# Altium schematic symbol library Microcontroller.SchLib: 13 symbols
Pins are listed as number, name and electrical type; pins without a type are passive.

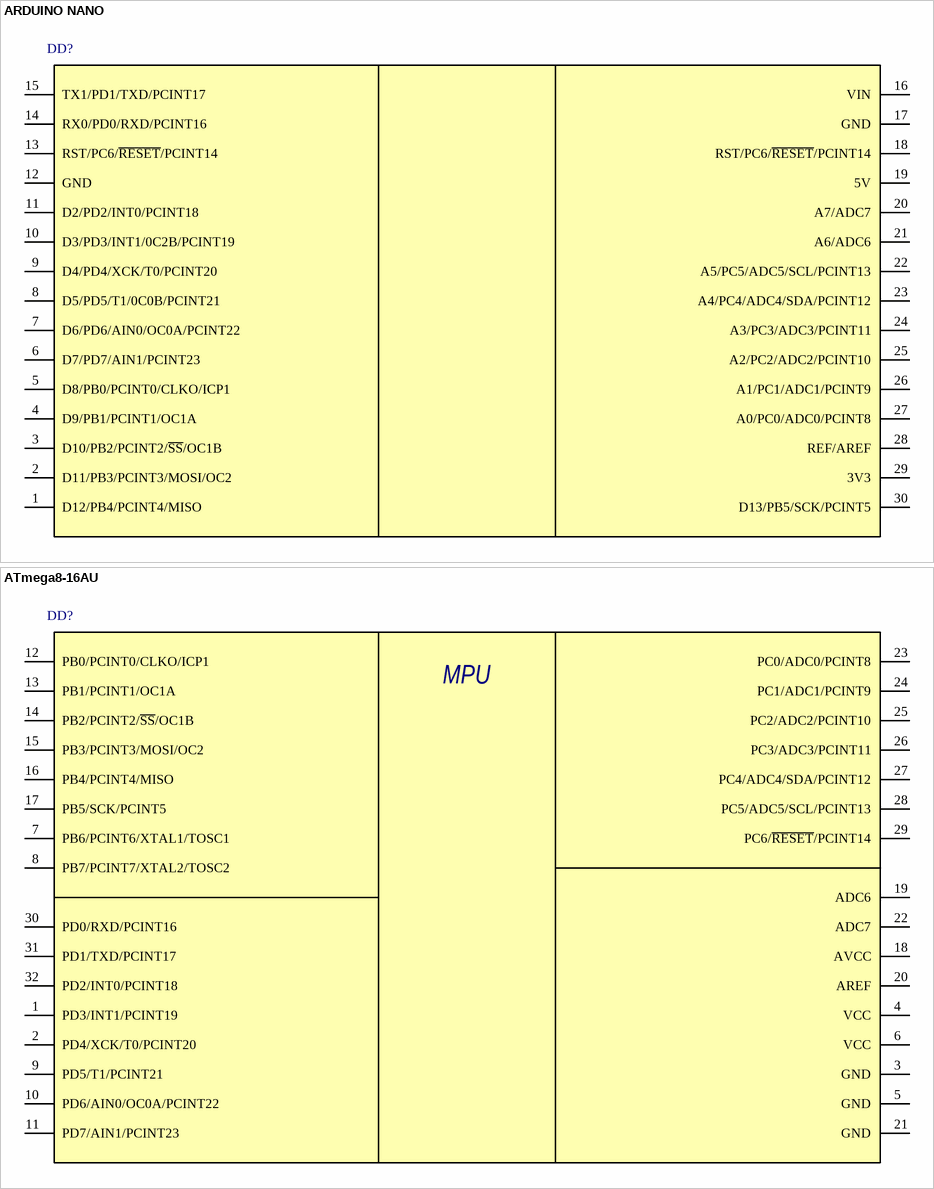
[diagram p0: symbols ARDUINO NANO to ATmega8-16AU]

## ARDUINO NANO
designator DD?
Отладочная плата ATmega328
pins: 1 D12/PB4/PCINT4/MISO, 2 D11/PB3/PCINT3/MOSI/OC2, 3 D10/PB2/PCINT2/~{SS}/OC1B, 4 D9/PB1/PCINT1/OC1A, 5 D8/PB0/PCINT0/CLKO/ICP1, 6 D7/PD7/AIN1/PCINT23, 7 D6/PD6/AIN0/OC0A/PCINT22, 8 D5/PD5/T1/0C0B/PCINT21, 9 D4/PD4/XCK/T0/PCINT20, 10 D3/PD3/INT1/0C2B/PCINT19, 11 D2/PD2/INT0/PCINT18, 12 GND, 13 RST/PC6/~{RESET}/PCINT14, 14 RX0/PD0/RXD/PCINT16, 15 TX1/PD1/TXD/PCINT17, 16 VIN, 17 GND, 18 RST/PC6/~{RESET}/PCINT14, 19 5V, 20 A7/ADC7, 21 A6/ADC6, 22 A5/PC5/ADC5/SCL/PCINT13, 23 A4/PC4/ADC4/SDA/PCINT12, 24 A3/PC3/ADC3/PCINT11, 25 A2/PC2/ADC2/PCINT10, 26 A1/PC1/ADC1/PCINT9, 27 A0/PC0/ADC0/PCINT8, 28 REF/AREF, 29 3V3, 30 D13/PB5/SCK/PCINT5

## ATmega8-16AU
designator DD?
Микроконтроллер 32-pin
pins: 1 PD3/INT1/PCINT19, 2 PD4/XCK/T0/PCINT20, 3 GND, 4 VCC, 5 GND, 6 VCC, 7 PB6/PCINT6/XTAL1/TOSC1, 8 PB7/PCINT7/XTAL2/TOSC2, 9 PD5/T1/PCINT21, 10 PD6/AIN0/OC0A/PCINT22, 11 PD7/AIN1/PCINT23, 12 PB0/PCINT0/CLKO/ICP1, 13 PB1/PCINT1/OC1A, 14 PB2/PCINT2/~{SS}/OC1B, 15 PB3/PCINT3/MOSI/OC2, 16 PB4/PCINT4/MISO, 17 PB5/SCK/PCINT5, 18 AVCC, 19 ADC6, 20 AREF, 21 GND, 22 ADC7, 23 PC0/ADC0/PCINT8, 24 PC1/ADC1/PCINT9, 25 PC2/ADC2/PCINT10, 26 PC3/ADC3/PCINT11, 27 PC4/ADC4/SDA/PCINT12, 28 PC5/ADC5/SCL/PCINT13, 29 PC6/~{RESET}/PCINT14, 30 PD0/RXD/PCINT16, 31 PD1/TXD/PCINT17, 32 PD2/INT0/PCINT18
text: MPU

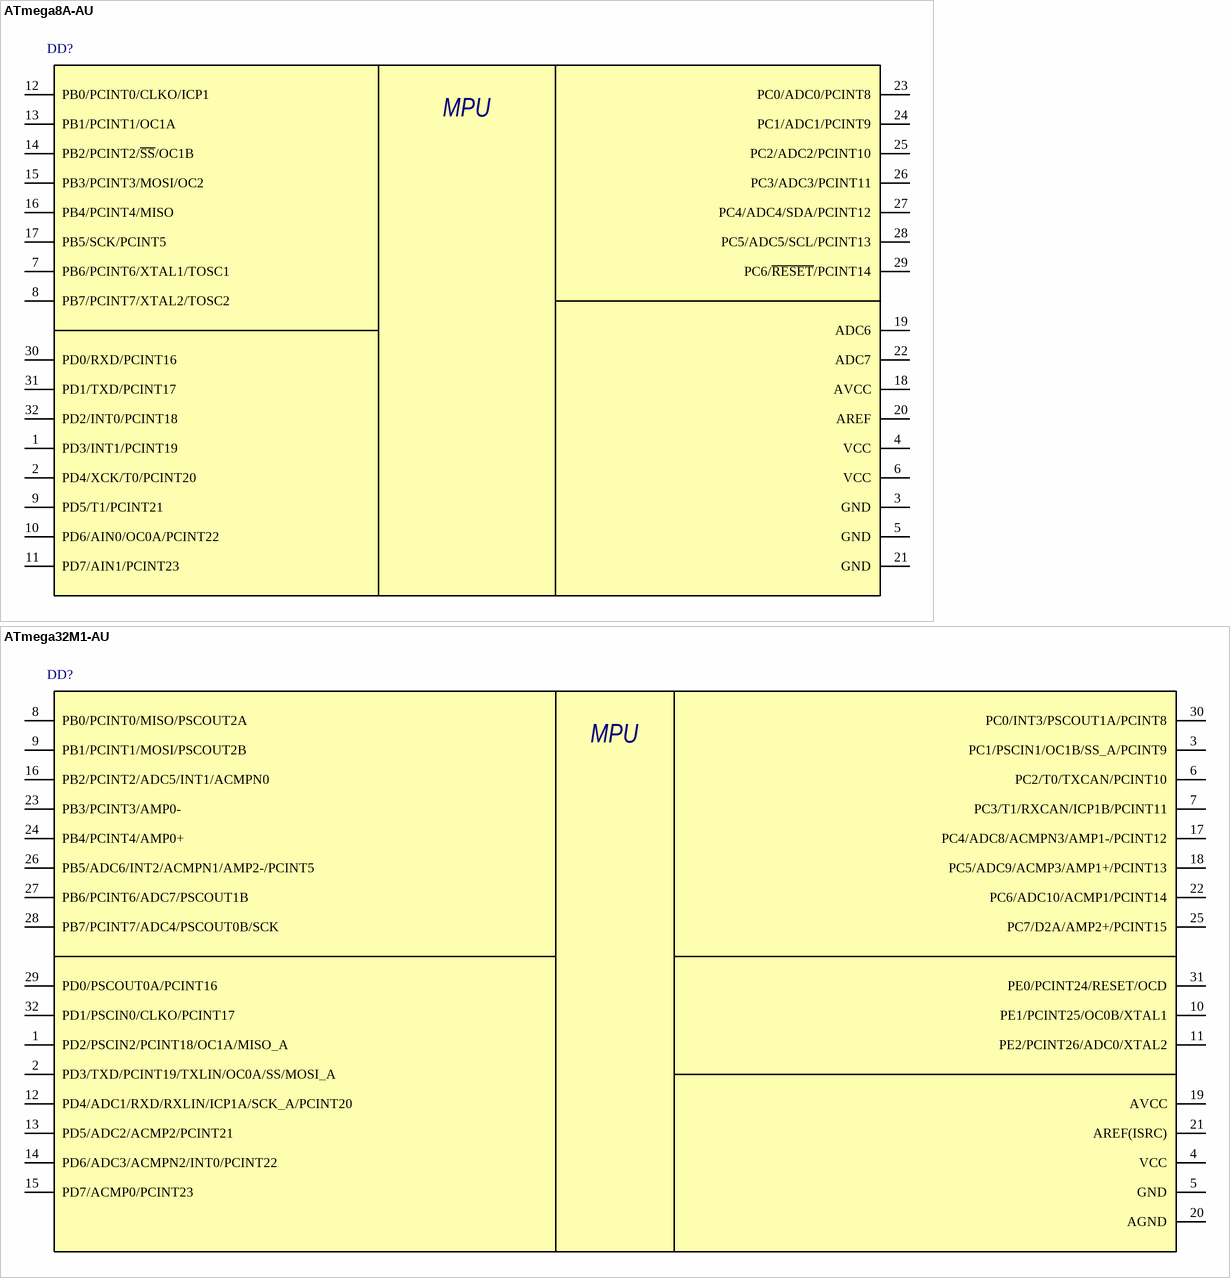
[diagram p1: symbols ATmega8A-AU to ATmega32M1-AU]

## ATmega8A-AU
designator DD?
Микроконтроллер 8-Бит, AVR, 16МГц, 8КБ Flash
pins: 1 PD3/INT1/PCINT19, 2 PD4/XCK/T0/PCINT20, 3 GND, 4 VCC, 5 GND, 6 VCC, 7 PB6/PCINT6/XTAL1/TOSC1, 8 PB7/PCINT7/XTAL2/TOSC2, 9 PD5/T1/PCINT21, 10 PD6/AIN0/OC0A/PCINT22, 11 PD7/AIN1/PCINT23, 12 PB0/PCINT0/CLKO/ICP1, 13 PB1/PCINT1/OC1A, 14 PB2/PCINT2/~{SS}/OC1B, 15 PB3/PCINT3/MOSI/OC2, 16 PB4/PCINT4/MISO, 17 PB5/SCK/PCINT5, 18 AVCC, 19 ADC6, 20 AREF, 21 GND, 22 ADC7, 23 PC0/ADC0/PCINT8, 24 PC1/ADC1/PCINT9, 25 PC2/ADC2/PCINT10, 26 PC3/ADC3/PCINT11, 27 PC4/ADC4/SDA/PCINT12, 28 PC5/ADC5/SCL/PCINT13, 29 PC6/~{RESET}/PCINT14, 30 PD0/RXD/PCINT16, 31 PD1/TXD/PCINT17, 32 PD2/INT0/PCINT18
text: MPU

## ATmega32M1-AU
designator DD?
Микроконтроллер 8-Бит, AVR, 16МГц, 32КБ Flash
pins: 1 PD2/PSCIN2/PCINT18/OC1A/MISO_A, 2 PD3/TXD/PCINT19/TXLIN/OC0A/SS/MOSI_A, 3 PC1/PSCIN1/OC1B/SS_A/PCINT9, 4 VCC, 5 GND, 6 PC2/T0/TXCAN/PCINT10, 7 PC3/T1/RXCAN/ICP1B/PCINT11, 8 PB0/PCINT0/MISO/PSCOUT2A, 9 PB1/PCINT1/MOSI/PSCOUT2B, 10 PE1/PCINT25/OC0B/XTAL1, 11 PE2/PCINT26/ADC0/XTAL2, 12 PD4/ADC1/RXD/RXLIN/ICP1A/SCK_A/PCINT20, 13 PD5/ADC2/ACMP2/PCINT21, 14 PD6/ADC3/ACMPN2/INT0/PCINT22, 15 PD7/ACMP0/PCINT23, 16 PB2/PCINT2/ADC5/INT1/ACMPN0, 17 PC4/ADC8/ACMPN3/AMP1-/PCINT12, 18 PC5/ADC9/ACMP3/AMP1+/PCINT13, 19 AVCC, 20 AGND, 21 AREF(ISRC), 22 PC6/ADC10/ACMP1/PCINT14, 23 PB3/PCINT3/AMP0-, 24 PB4/PCINT4/AMP0+, 25 PC7/D2A/AMP2+/PCINT15, 26 PB5/ADC6/INT2/ACMPN1/AMP2-/PCINT5, 27 PB6/PCINT6/ADC7/PSCOUT1B, 28 PB7/PCINT7/ADC4/PSCOUT0B/SCK, 29 PD0/PSCOUT0A/PCINT16, 30 PC0/INT3/PSCOUT1A/PCINT8, 31 PE0/PCINT24/RESET/OCD, 32 PD1/PSCIN0/CLKO/PCINT17
text: MPU

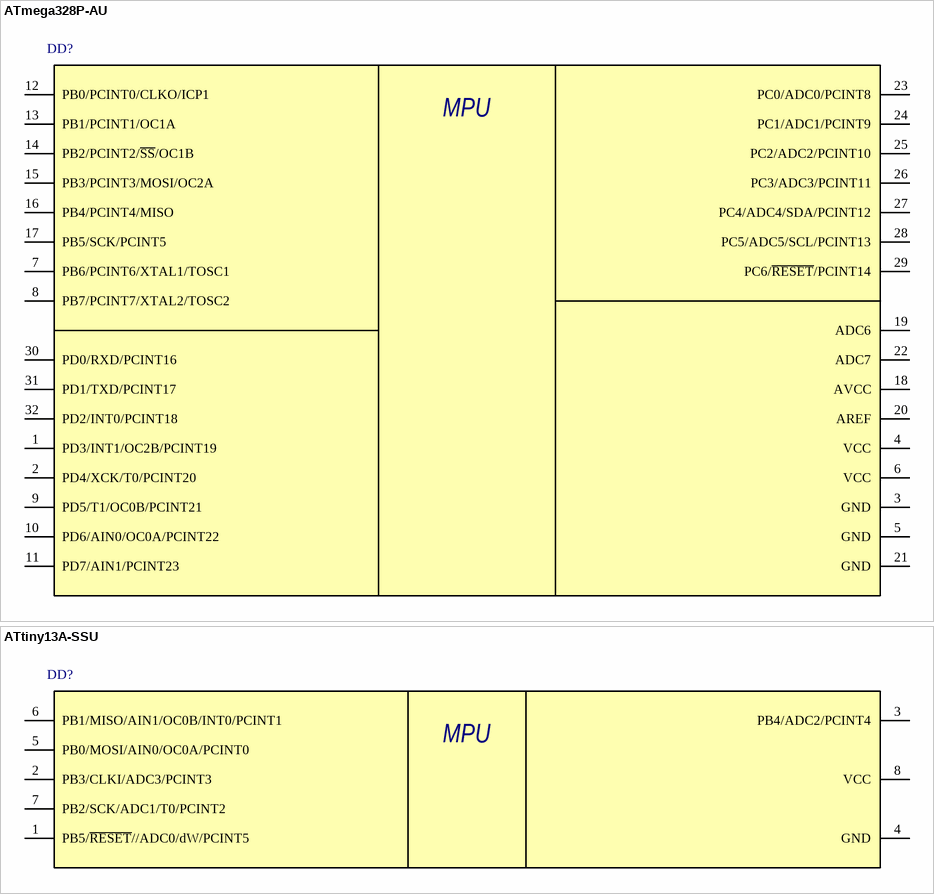
[diagram p2: symbols ATmega328P-AU to ATtiny13A-SSU]

## ATmega328P-AU
designator DD?
Микроконтроллер 8-Бит, picoPower, AVR, 20МГц, 32КБ Flash
pins: 1 PD3/INT1/OC2B/PCINT19, 2 PD4/XCK/T0/PCINT20, 3 GND, 4 VCC, 5 GND, 6 VCC, 7 PB6/PCINT6/XTAL1/TOSC1, 8 PB7/PCINT7/XTAL2/TOSC2, 9 PD5/T1/OC0B/PCINT21, 10 PD6/AIN0/OC0A/PCINT22, 11 PD7/AIN1/PCINT23, 12 PB0/PCINT0/CLKO/ICP1, 13 PB1/PCINT1/OC1A, 14 PB2/PCINT2/~{SS}/OC1B, 15 PB3/PCINT3/MOSI/OC2A, 16 PB4/PCINT4/MISO, 17 PB5/SCK/PCINT5, 18 AVCC, 19 ADC6, 20 AREF, 21 GND, 22 ADC7, 23 PC0/ADC0/PCINT8, 24 PC1/ADC1/PCINT9, 25 PC2/ADC2/PCINT10, 26 PC3/ADC3/PCINT11, 27 PC4/ADC4/SDA/PCINT12, 28 PC5/ADC5/SCL/PCINT13, 29 PC6/~{RESET}/PCINT14, 30 PD0/RXD/PCINT16, 31 PD1/TXD/PCINT17, 32 PD2/INT0/PCINT18
text: MPU

## ATtiny13A-SSU
designator DD?
Микроконтроллер 8-Бит, picoPower, AVR, 20МГц, 1КБ Flash
pins: 1 PB5/~{RESET}//ADC0/dW/PCINT5, 2 PB3/CLKI/ADC3/PCINT3, 3 PB4/ADC2/PCINT4, 4 GND, 5 PB0/MOSI/AIN0/OC0A/PCINT0, 6 PB1/MISO/AIN1/OC0B/INT0/PCINT1, 7 PB2/SCK/ADC1/T0/PCINT2, 8 VCC
text: MPU

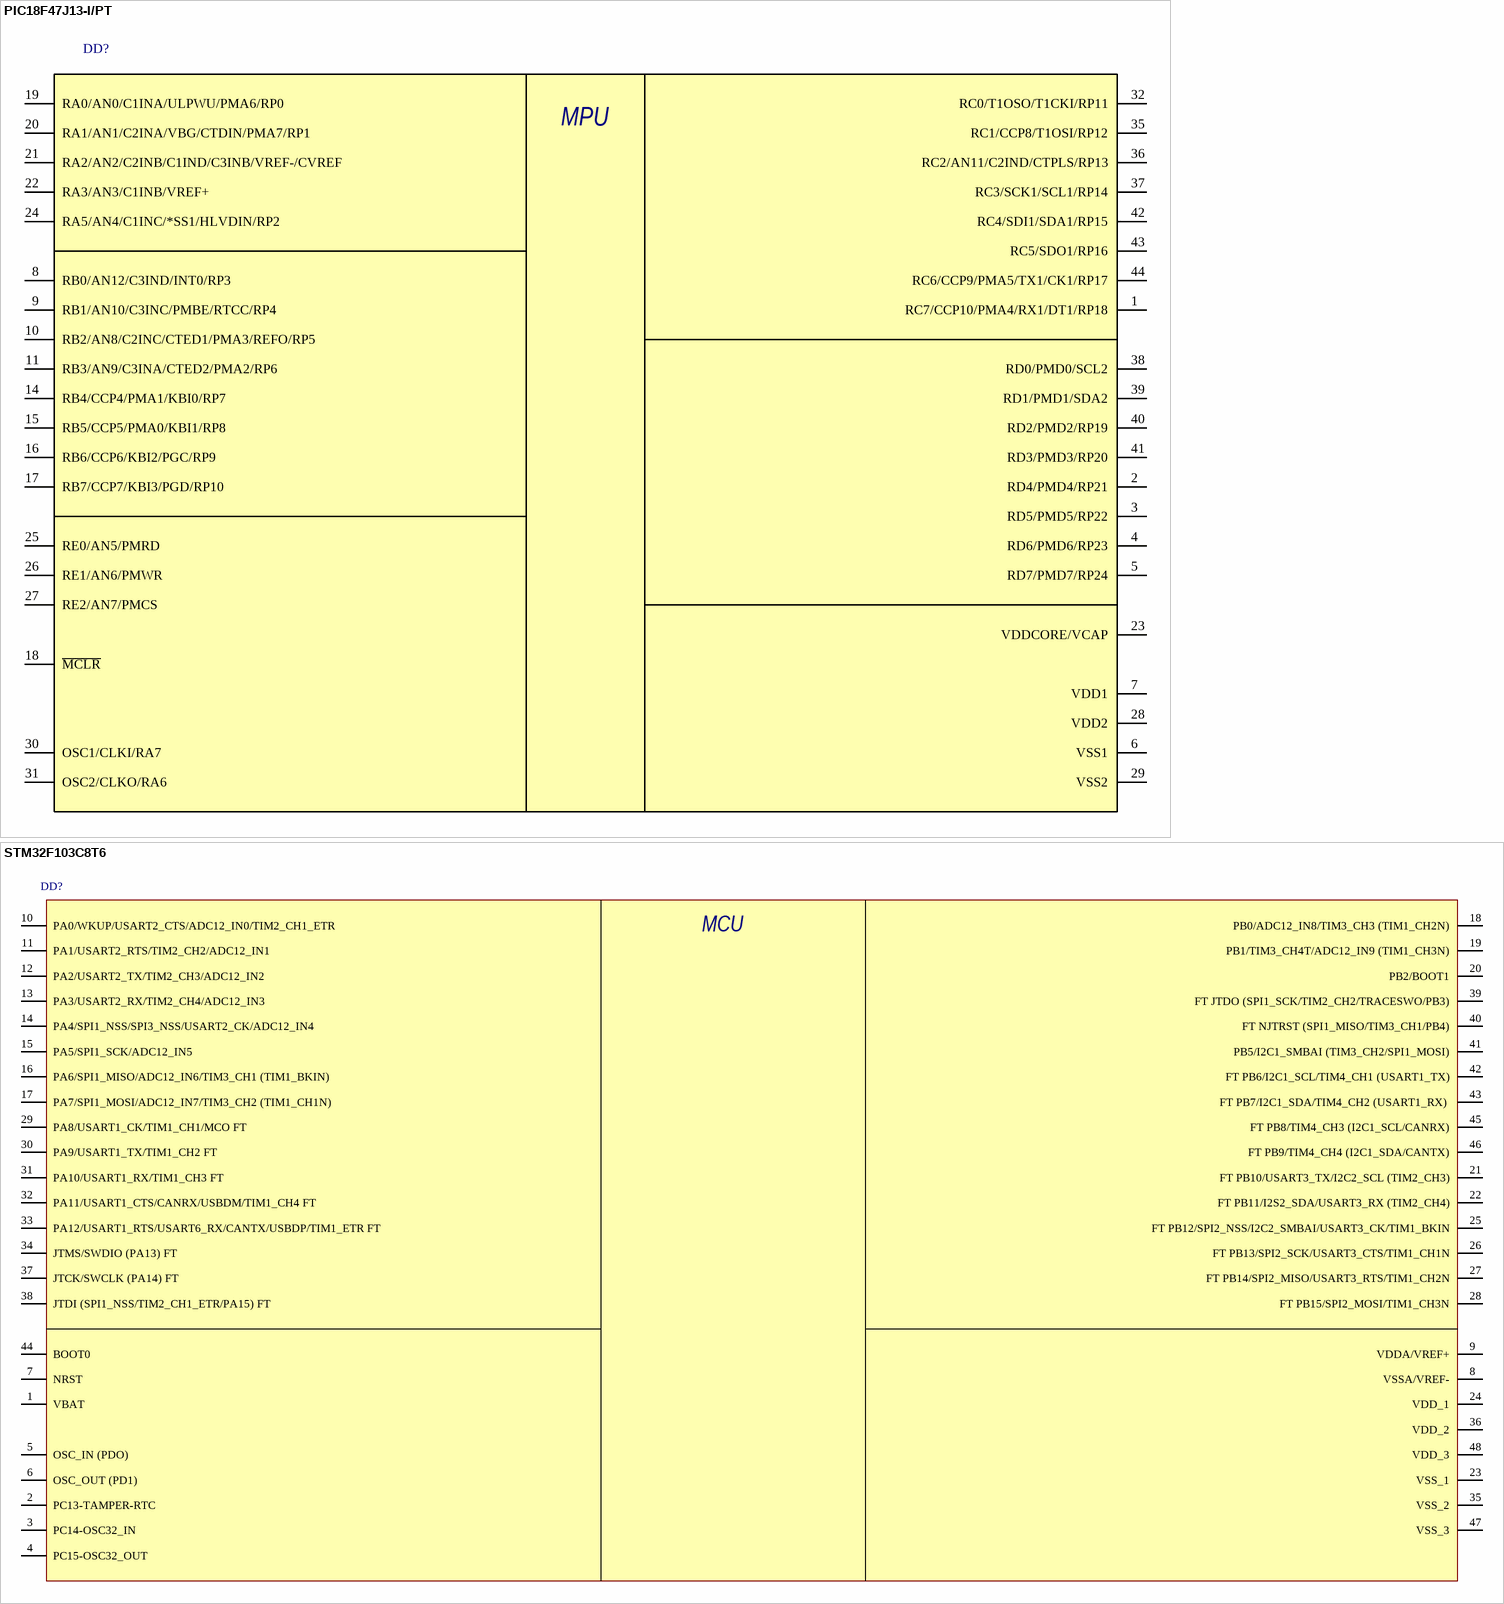
[diagram p3: symbols PIC18F47J13-I/PT to STM32F103C8T6]

## PIC18F47J13-I/PT
designator DD?
Микроконтроллер 8-Бит, 44-pin
pins: 1 RC7/CCP10/PMA4/RX1/DT1/RP18, 2 RD4/PMD4/RP21, 3 RD5/PMD5/RP22, 4 RD6/PMD6/RP23, 5 RD7/PMD7/RP24, 6 VSS1, 7 VDD1, 8 RB0/AN12/C3IND/INT0/RP3, 9 RB1/AN10/C3INC/PMBE/RTCC/RP4, 10 RB2/AN8/C2INC/CTED1/PMA3/REFO/RP5, 11 RB3/AN9/C3INA/CTED2/PMA2/RP6, 14 RB4/CCP4/PMA1/KBI0/RP7, 15 RB5/CCP5/PMA0/KBI1/RP8, 16 RB6/CCP6/KBI2/PGC/RP9, 17 RB7/CCP7/KBI3/PGD/RP10, 18 ~{MCLR}, 19 RA0/AN0/C1INA/ULPWU/PMA6/RP0, 20 RA1/AN1/C2INA/VBG/CTDIN/PMA7/RP1, 21 RA2/AN2/C2INB/C1IND/C3INB/VREF-/CVREF, 22 RA3/AN3/C1INB/VREF+, 23 VDDCORE/VCAP, 24 RA5/AN4/C1INC/*SS1/HLVDIN/RP2, 25 RE0/AN5/PMRD, 26 RE1/AN6/PMWR, 27 RE2/AN7/PMCS, 28 VDD2, 29 VSS2, 30 OSC1/CLKI/RA7, 31 OSC2/CLKO/RA6, 32 RC0/T1OSO/T1CKI/RP11, 35 RC1/CCP8/T1OSI/RP12, 36 RC2/AN11/C2IND/CTPLS/RP13, 37 RC3/SCK1/SCL1/RP14, 38 RD0/PMD0/SCL2, 39 RD1/PMD1/SDA2, 40 RD2/PMD2/RP19, 41 RD3/PMD3/RP20, 42 RC4/SDI1/SDA1/RP15, 43 RC5/SDO1/RP16, 44 RC6/CCP9/PMA5/TX1/CK1/RP17
text: MPU

## STM32F103C8T6
designator DD?
Medium-density performance line ARM®-based 32-bit MCU with 64  or 128 KB Flash, USB, CAN, 7 timers, 2 ADCs, 9 com. interfaces
pins: 1 VBAT, 2 PC13-TAMPER-RTC, 3 PC14-OSC32_IN, 4 PC15-OSC32_OUT, 5 OSC_IN (PDO), 6 OSC_OUT (PD1), 7 NRST, 8 VSSA/VREF-, 9 VDDA/VREF+, 10 PA0/WKUP/USART2_CTS/ADC12_IN0/TIM2_CH1_ETR, 11 PA1/USART2_RTS/TIM2_CH2/ADC12_IN1, 12 PA2/USART2_TX/TIM2_CH3/ADC12_IN2, 13 PA3/USART2_RX/TIM2_CH4/ADC12_IN3, 14 PA4/SPI1_NSS/SPI3_NSS/USART2_CK/ADC12_IN4, 15 PA5/SPI1_SCK/ADC12_IN5, 16 PA6/SPI1_MISO/ADC12_IN6/TIM3_CH1 (TIM1_BKIN), 17 PA7/SPI1_MOSI/ADC12_IN7/TIM3_CH2 (TIM1_CH1N), 18 PB0/ADC12_IN8/TIM3_CH3 (TIM1_CH2N), 19 PB1/TIM3_CH4T/ADC12_IN9 (TIM1_CH3N), 20 PB2/BOOT1, 21 FT PB10/USART3_TX/I2C2_SCL (TIM2_CH3), 22 FT PB11/I2S2_SDA/USART3_RX (TIM2_CH4), 23 VSS_1, 24 VDD_1, 25 FT PB12/SPI2_NSS/I2C2_SMBAI/USART3_CK/TIM1_BKIN, 26 FT PB13/SPI2_SCK/USART3_CTS/TIM1_CH1N, 27 FT PB14/SPI2_MISO/USART3_RTS/TIM1_CH2N, 28 FT PB15/SPI2_MOSI/TIM1_CH3N, 29 PA8/USART1_CK/TIM1_CH1/MCO FT, 30 PA9/USART1_TX/TIM1_CH2 FT, 31 PA10/USART1_RX/TIM1_CH3 FT, 32 PA11/USART1_CTS/CANRX/USBDM/TIM1_CH4 FT, 33 PA12/USART1_RTS/USART6_RX/CANTX/USBDP/TIM1_ETR FT, 34 JTMS/SWDIO (PA13) FT, 35 VSS_2, 36 VDD_2, 37 JTCK/SWCLK (PA14) FT, 38 JTDI (SPI1_NSS/TIM2_CH1_ETR/PA15) FT, 39 FT JTDO (SPI1_SCK/TIM2_CH2/TRACESWO/PB3), 40 FT NJTRST (SPI1_MISO/TIM3_CH1/PB4), 41 PB5/I2C1_SMBAI (TIM3_CH2/SPI1_MOSI), 42 FT PB6/I2C1_SCL/TIM4_CH1 (USART1_TX), 43 FT PB7/I2C1_SDA/TIM4_CH2 (USART1_RX) , 44 BOOT0, 45 FT PB8/TIM4_CH3 (I2C1_SCL/CANRX), 46 FT PB9/TIM4_CH4 (I2C1_SDA/CANTX), 47 VSS_3, 48 VDD_3
text: MСU

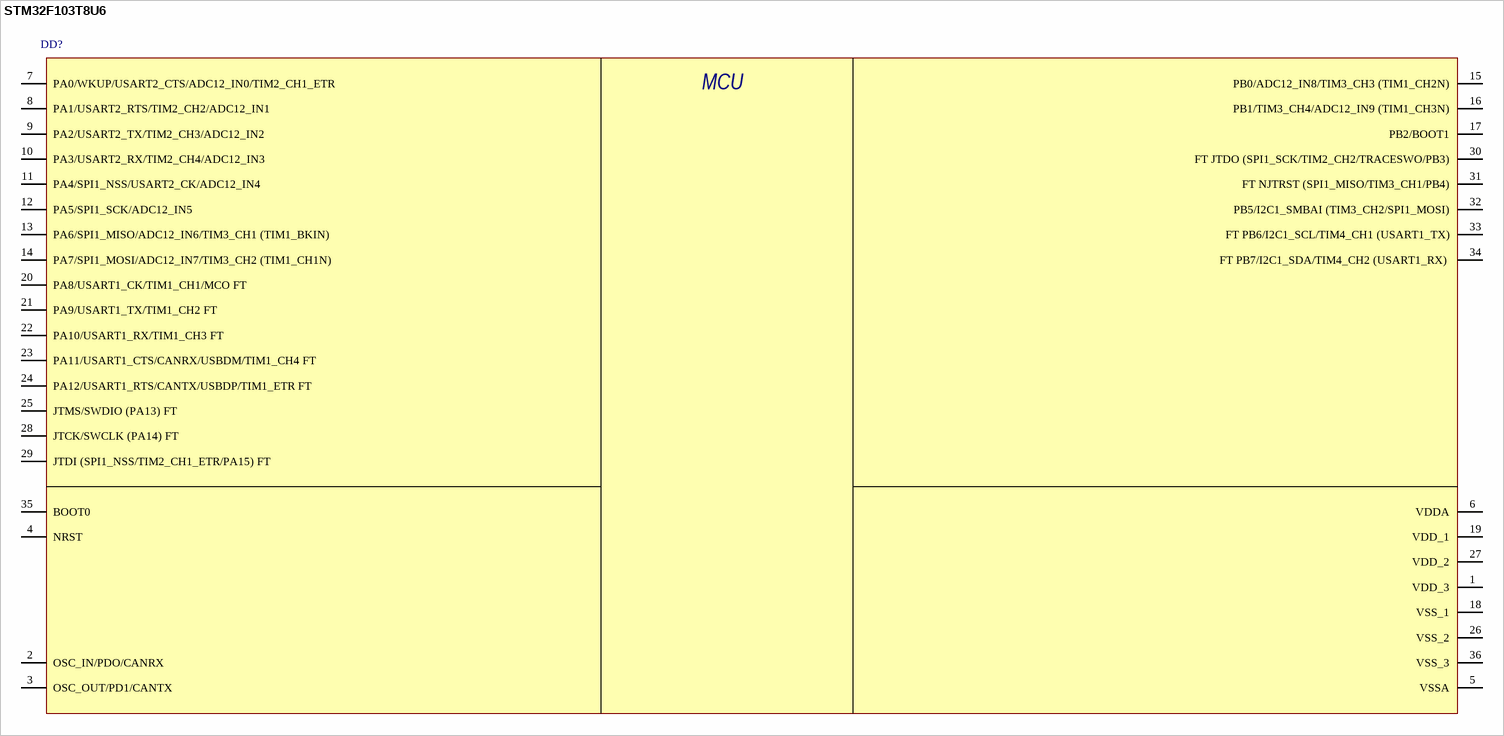
[diagram p4: symbol STM32F103T8U6]

## STM32F103T8U6
designator DD?
pins: 1 VDD_3, 2 OSC_IN/PDO/CANRX, 3 OSC_OUT/PD1/CANTX, 4 NRST, 5 VSSA, 6 VDDA, 7 PA0/WKUP/USART2_CTS/ADC12_IN0/TIM2_CH1_ETR, 8 PA1/USART2_RTS/TIM2_CH2/ADC12_IN1, 9 PA2/USART2_TX/TIM2_CH3/ADC12_IN2, 10 PA3/USART2_RX/TIM2_CH4/ADC12_IN3, 11 PA4/SPI1_NSS/USART2_CK/ADC12_IN4, 12 PA5/SPI1_SCK/ADC12_IN5, 13 PA6/SPI1_MISO/ADC12_IN6/TIM3_CH1 (TIM1_BKIN), 14 PA7/SPI1_MOSI/ADC12_IN7/TIM3_CH2 (TIM1_CH1N), 15 PB0/ADC12_IN8/TIM3_CH3 (TIM1_CH2N), 16 PB1/TIM3_CH4/ADC12_IN9 (TIM1_CH3N), 17 PB2/BOOT1, 18 VSS_1, 19 VDD_1, 20 PA8/USART1_CK/TIM1_CH1/MCO FT, 21 PA9/USART1_TX/TIM1_CH2 FT, 22 PA10/USART1_RX/TIM1_CH3 FT, 23 PA11/USART1_CTS/CANRX/USBDM/TIM1_CH4 FT, 24 PA12/USART1_RTS/CANTX/USBDP/TIM1_ETR FT, 25 JTMS/SWDIO (PA13) FT, 26 VSS_2, 27 VDD_2, 28 JTCK/SWCLK (PA14) FT, 29 JTDI (SPI1_NSS/TIM2_CH1_ETR/PA15) FT, 30 FT JTDO (SPI1_SCK/TIM2_CH2/TRACESWO/PB3), 31 FT NJTRST (SPI1_MISO/TIM3_CH1/PB4), 32 PB5/I2C1_SMBAI (TIM3_CH2/SPI1_MOSI), 33 FT PB6/I2C1_SCL/TIM4_CH1 (USART1_TX), 34 FT PB7/I2C1_SDA/TIM4_CH2 (USART1_RX) , 35 BOOT0, 36 VSS_3
text: MСU

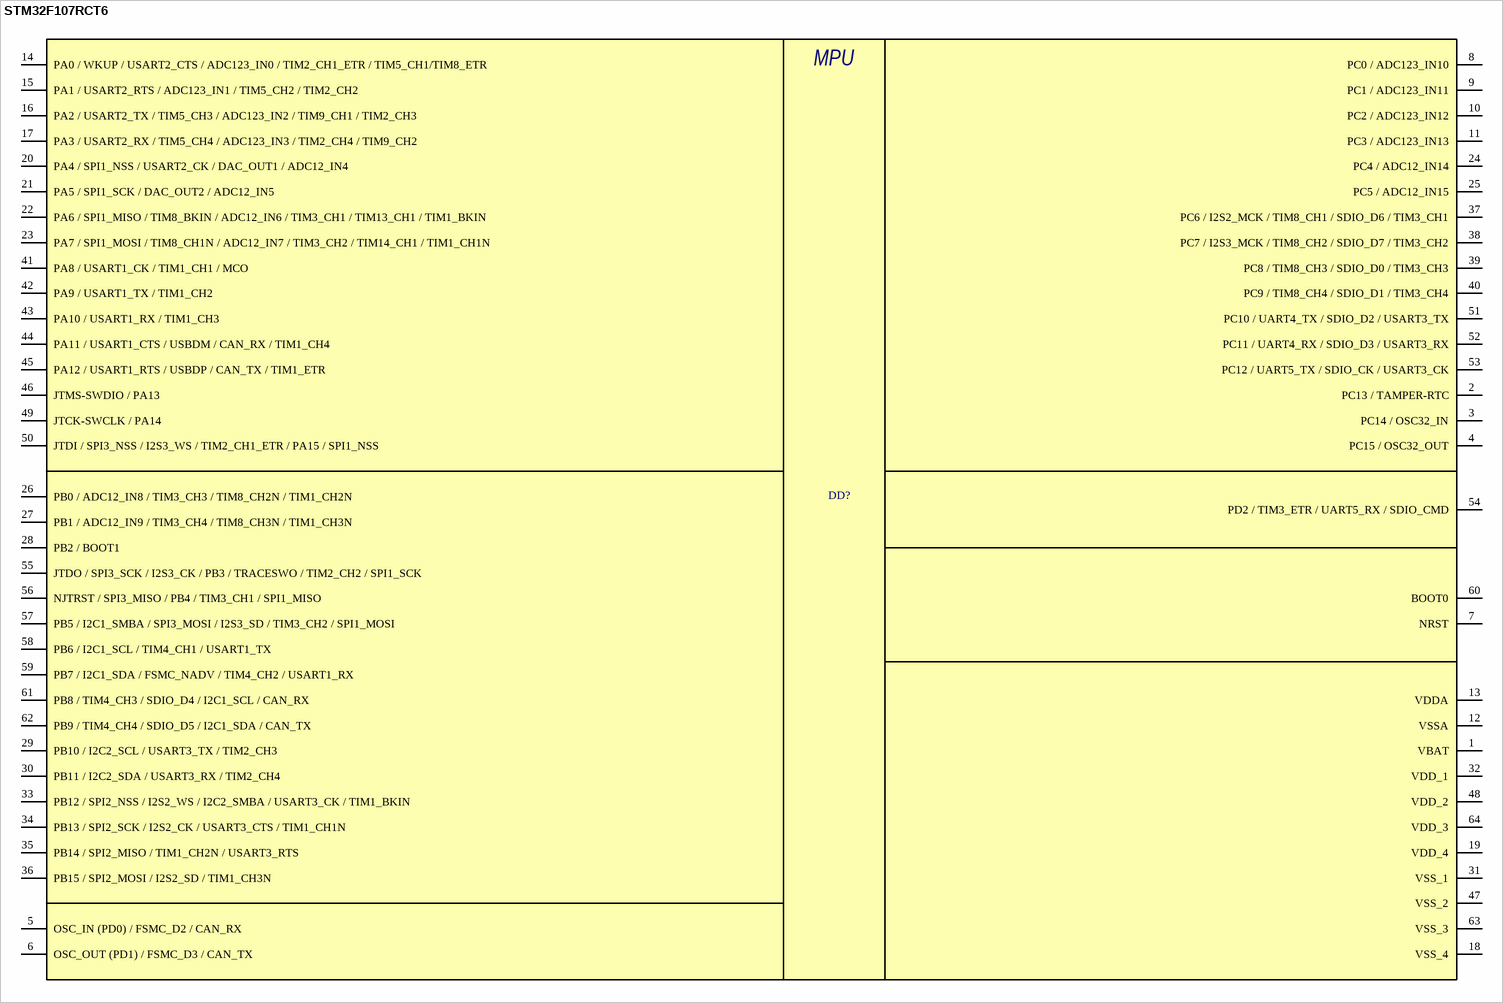
[diagram p5: symbol STM32F107RCT6]

## STM32F107RCT6
designator DD?
Микроконтроллер 64-pin
pins: 1 VBAT, 2 PC13 / TAMPER-RTC, 3 PC14 / OSC32_IN, 4 PC15 / OSC32_OUT, 5 OSC_IN (PD0) / FSMC_D2 / CAN_RX, 6 OSC_OUT (PD1) / FSMC_D3 / CAN_TX, 7 NRST, 8 PC0 / ADC123_IN10, 9 PC1 / ADC123_IN11, 10 PC2 / ADC123_IN12, 11 PC3 / ADC123_IN13, 12 VSSA, 13 VDDA, 14 PA0 / WKUP / USART2_CTS / ADC123_IN0 / TIM2_CH1_ETR / TIM5_CH1/TIM8_ETR, 15 PA1 / USART2_RTS / ADC123_IN1 / TIM5_CH2 / TIM2_CH2, 16 PA2 / USART2_TX / TIM5_CH3 / ADC123_IN2 / TIM9_CH1 / TIM2_CH3, 17 PA3 / USART2_RX / TIM5_CH4 / ADC123_IN3 / TIM2_CH4 / TIM9_CH2, 18 VSS_4, 19 VDD_4, 20 PA4 / SPI1_NSS / USART2_CK / DAC_OUT1 / ADC12_IN4, 21 PA5 / SPI1_SCK / DAC_OUT2 / ADC12_IN5, 22 PA6 / SPI1_MISO / TIM8_BKIN / ADC12_IN6 / TIM3_CH1 / TIM13_CH1 / TIM1_BKIN, 23 PA7 / SPI1_MOSI / TIM8_CH1N / ADC12_IN7 / TIM3_CH2 / TIM14_CH1 / TIM1_CH1N, 24 PC4 / ADC12_IN14, 25 PC5 / ADC12_IN15, 26 PB0 / ADC12_IN8 / TIM3_CH3 / TIM8_CH2N / TIM1_CH2N, 27 PB1 / ADC12_IN9 / TIM3_CH4 / TIM8_CH3N / TIM1_CH3N, 28 PB2 / BOOT1, 29 PB10 / I2C2_SCL / USART3_TX / TIM2_CH3, 30 PB11 / I2C2_SDA / USART3_RX / TIM2_CH4, 31 VSS_1, 32 VDD_1, 33 PB12 / SPI2_NSS / I2S2_WS / I2C2_SMBA / USART3_CK / TIM1_BKIN, 34 PB13 / SPI2_SCK / I2S2_CK / USART3_CTS / TIM1_CH1N, 35 PB14 / SPI2_MISO / TIM1_CH2N / USART3_RTS, 36 PB15 / SPI2_MOSI / I2S2_SD / TIM1_CH3N , 37 PC6 / I2S2_MCK / TIM8_CH1 / SDIO_D6 / TIM3_CH1, 38 PC7 / I2S3_MCK / TIM8_CH2 / SDIO_D7 / TIM3_CH2, 39 PC8 / TIM8_CH3 / SDIO_D0 / TIM3_CH3, 40 PC9 / TIM8_CH4 / SDIO_D1 / TIM3_CH4, 41 PA8 / USART1_CK / TIM1_CH1 / MCO, 42 PA9 / USART1_TX / TIM1_CH2, 43 PA10 / USART1_RX / TIM1_CH3, 44 PA11 / USART1_CTS / USBDM / CAN_RX / TIM1_CH4, 45 PA12 / USART1_RTS / USBDP / CAN_TX / TIM1_ETR, 46 JTMS-SWDIO / PA13, 47 VSS_2, 48 VDD_2, 49 JTCK-SWCLK / PA14, 50 JTDI / SPI3_NSS / I2S3_WS / TIM2_CH1_ETR / PA15 / SPI1_NSS, 51 PC10 / UART4_TX / SDIO_D2 / USART3_TX, 52 PC11 / UART4_RX / SDIO_D3 / USART3_RX, 53 PC12 / UART5_TX / SDIO_CK / USART3_CK, 54 PD2 / TIM3_ETR / UART5_RX / SDIO_CMD, 55 JTDO / SPI3_SCK / I2S3_CK / PB3 / TRACESWO / TIM2_CH2 / SPI1_SCK, 56 NJTRST / SPI3_MISO / PB4 / TIM3_CH1 / SPI1_MISO, 57 PB5 / I2C1_SMBA / SPI3_MOSI / I2S3_SD / TIM3_CH2 / SPI1_MOSI, 58 PB6 / I2C1_SCL / TIM4_CH1 / USART1_TX, 59 PB7 / I2C1_SDA / FSMC_NADV / TIM4_CH2 / USART1_RX, 60 BOOT0, 61 PB8 / TIM4_CH3 / SDIO_D4 / I2C1_SCL / CAN_RX, 62 PB9 / TIM4_CH4 / SDIO_D5 / I2C1_SDA / CAN_TX, 63 VSS_3, 64 VDD_3
text: MPU

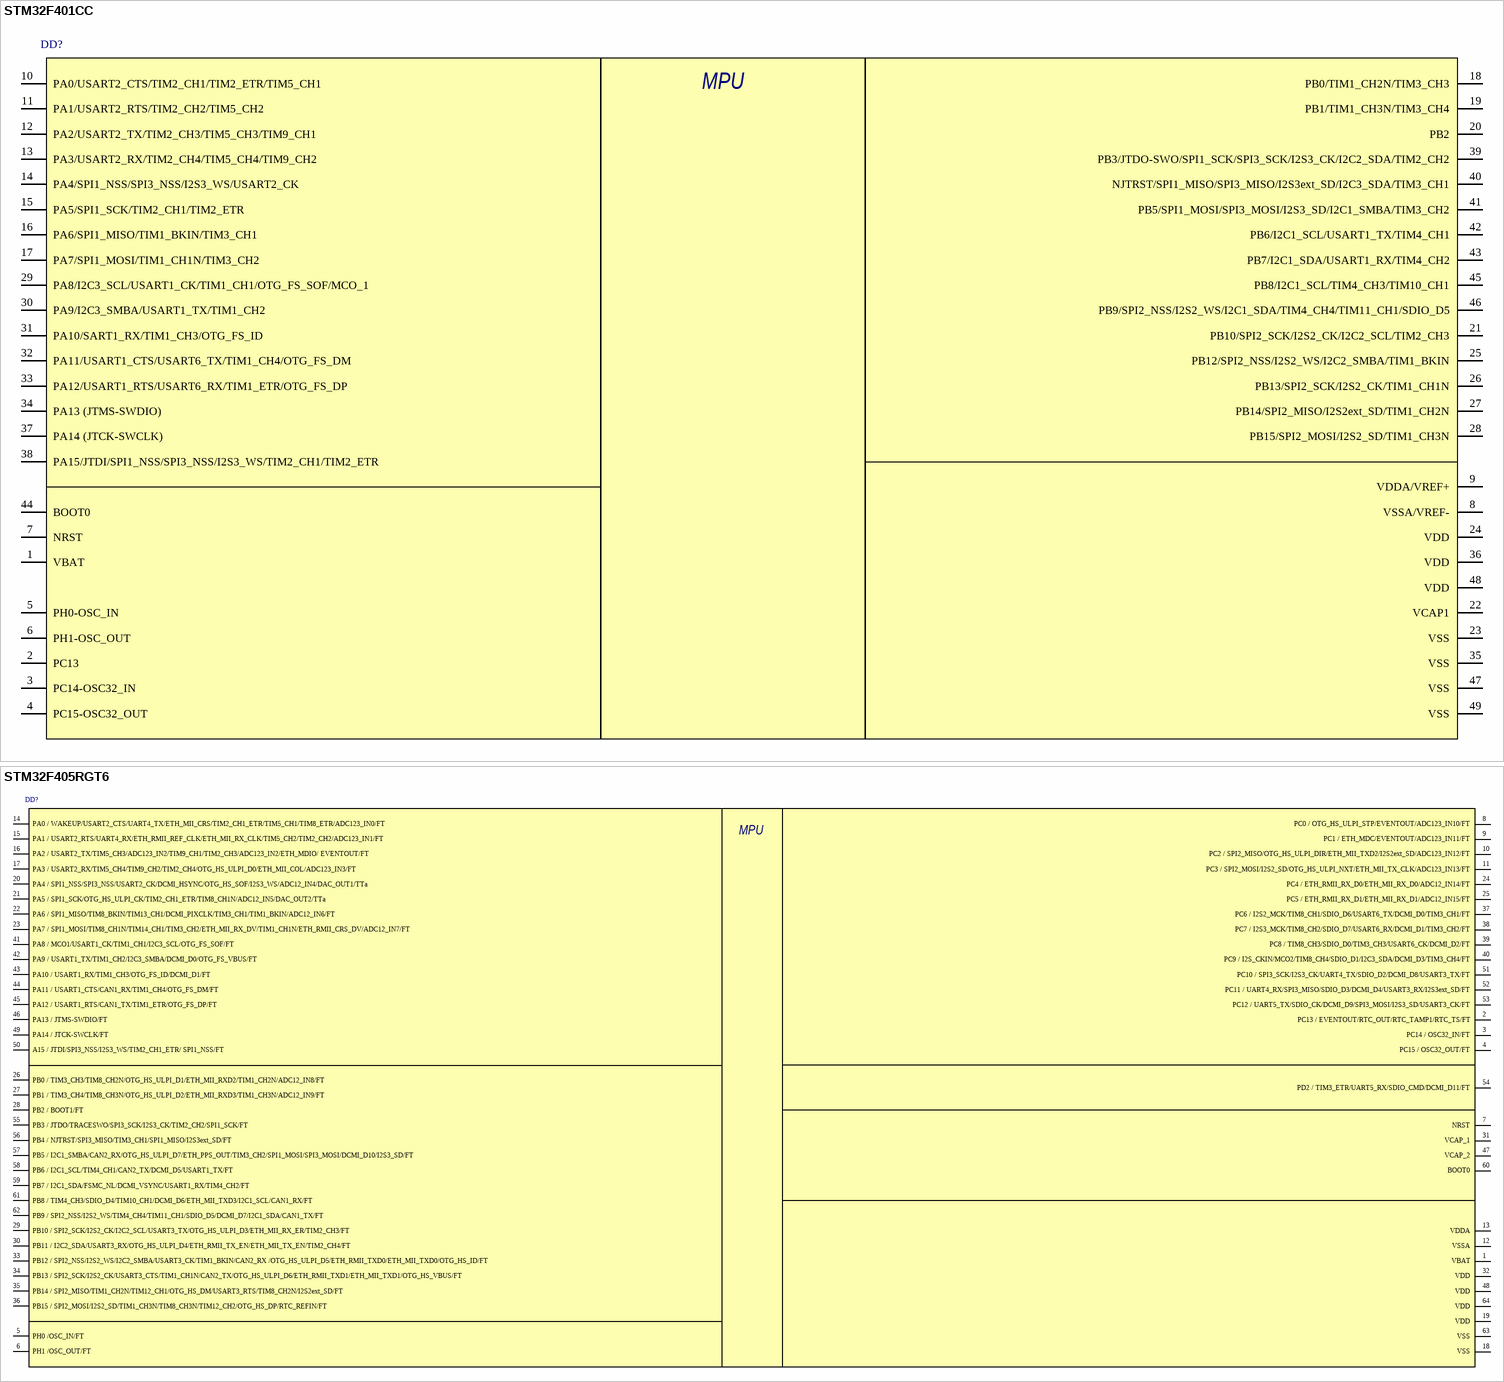
[diagram p6: symbols STM32F401CC to STM32F405RGT6]

## STM32F401CC
designator DD?
pins: 1 VBAT, 2 PC13, 3 PC14-OSC32_IN, 4 PC15-OSC32_OUT, 5 PH0-OSC_IN, 6 PH1-OSC_OUT, 7 NRST, 8 VSSA/VREF-, 9 VDDA/VREF+, 10 PA0/USART2_CTS/TIM2_CH1/TIM2_ETR/TIM5_CH1, 11 PA1/USART2_RTS/TIM2_CH2/TIM5_CH2, 12 PA2/USART2_TX/TIM2_CH3/TIM5_CH3/TIM9_CH1, 13 PA3/USART2_RX/TIM2_CH4/TIM5_CH4/TIM9_CH2, 14 PA4/SPI1_NSS/SPI3_NSS/I2S3_WS/USART2_CK, 15 PA5/SPI1_SCK/TIM2_CH1/TIM2_ETR, 16 PA6/SPI1_MISO/TIM1_BKIN/TIM3_CH1, 17 PA7/SPI1_MOSI/TIM1_CH1N/TIM3_CH2, 18 PB0/TIM1_CH2N/TIM3_CH3, 19 PB1/TIM1_CH3N/TIM3_CH4, 20 PB2, 21 PB10/SPI2_SCK/I2S2_CK/I2C2_SCL/TIM2_CH3, 22 VCAP1, 23 VSS, 24 VDD, 25 PB12/SPI2_NSS/I2S2_WS/I2C2_SMBA/TIM1_BKIN, 26 PB13/SPI2_SCK/I2S2_CK/TIM1_CH1N, 27 PB14/SPI2_MISO/I2S2ext_SD/TIM1_CH2N, 28 PB15/SPI2_MOSI/I2S2_SD/TIM1_CH3N, 29 PA8/I2C3_SCL/USART1_CK/TIM1_CH1/OTG_FS_SOF/MCO_1, 30 PA9/I2C3_SMBA/USART1_TX/TIM1_CH2, 31 PA10/SART1_RX/TIM1_CH3/OTG_FS_ID, 32 PA11/USART1_CTS/USART6_TX/TIM1_CH4/OTG_FS_DM, 33 PA12/USART1_RTS/USART6_RX/TIM1_ETR/OTG_FS_DP, 34 PA13 (JTMS-SWDIO), 35 VSS, 36 VDD, 37 PA14 (JTCK-SWCLK), 38 PA15/JTDI/SPI1_NSS/SPI3_NSS/I2S3_WS/TIM2_CH1/TIM2_ETR, 39 PB3/JTDO-SWO/SPI1_SCK/SPI3_SCK/I2S3_CK/I2C2_SDA/TIM2_CH2, 40 NJTRST/SPI1_MISO/SPI3_MISO/I2S3ext_SD/I2C3_SDA/TIM3_CH1, 41 PB5/SPI1_MOSI/SPI3_MOSI/I2S3_SD/I2C1_SMBA/TIM3_CH2, 42 PB6/I2C1_SCL/USART1_TX/TIM4_CH1, 43 PB7/I2C1_SDA/USART1_RX/TIM4_CH2, 44 BOOT0, 45 PB8/I2C1_SCL/TIM4_CH3/TIM10_CH1, 46 PB9/SPI2_NSS/I2S2_WS/I2C1_SDA/TIM4_CH4/TIM11_CH1/SDIO_D5, 47 VSS, 48 VDD, 49 VSS
text: MPU

## STM32F405RGT6
designator DD?
pins: 1 VBAT, 2 PC13 / EVENTOUT/RTC_OUT/RTC_TAMP1/RTC_TS/FT, 3 PC14 / OSC32_IN/FT, 4 PC15 / OSC32_OUT/FT, 5 PH0 /OSC_IN/FT, 6 PH1 /OSC_OUT/FT, 7 NRST, 8 PC0 / OTG_HS_ULPI_STP/EVENTOUT/ADC123_IN10/FT, 9 PC1 / ETH_MDC/EVENTOUT/ADC123_IN11/FT, 10 PC2 / SPI2_MISO/OTG_HS_ULPI_DIR/ETH_MII_TXD2/I2S2ext_SD/ADC123_IN12/FT, 11 PC3 / SPI2_MOSI/I2S2_SD/OTG_HS_ULPI_NXT/ETH_MII_TX_CLK/ADC123_IN13/FT, 12 VSSA, 13 VDDA, 14 PA0 / WAKEUP/USART2_CTS/UART4_TX/ETH_MII_CRS/TIM2_CH1_ETR/TIM5_CH1/TIM8_ETR/ADC123_IN0/FT, 15 PA1 / USART2_RTS/UART4_RX/ETH_RMII_REF_CLK/ETH_MII_RX_CLK/TIM5_CH2/TIM2_CH2/ADC123_IN1/FT, 16 PA2 / USART2_TX/TIM5_CH3/ADC123_IN2/TIM9_CH1/TIM2_CH3/ADC123_IN2/ETH_MDIO/ EVENTOUT/FT, 17 PA3 / USART2_RX/TIM5_CH4/TIM9_CH2/TIM2_CH4/OTG_HS_ULPI_D0/ETH_MII_COL/ADC123_IN3/FT, 18 VSS, 19 VDD, 20 PA4 / SPI1_NSS/SPI3_NSS/USART2_CK/DCMI_HSYNC/OTG_HS_SOF/I2S3_WS/ADC12_IN4/DAC_OUT1/TTa, 21 PA5 / SPI1_SCK/OTG_HS_ULPI_CK/TIM2_CH1_ETR/TIM8_CH1N/ADC12_IN5/DAC_OUT2/TTa, 22 PA6 / SPI1_MISO/TIM8_BKIN/TIM13_CH1/DCMI_PIXCLK/TIM3_CH1/TIM1_BKIN/ADC12_IN6/FT, 23 PA7 / SPI1_MOSI/TIM8_CH1N/TIM14_CH1/TIM3_CH2/ETH_MII_RX_DV/TIM1_CH1N/ETH_RMII_CRS_DV/ADC12_IN7/FT, 24 PC4 / ETH_RMII_RX_D0/ETH_MII_RX_D0/ADC12_IN14/FT, 25 PC5 / ETH_RMII_RX_D1/ETH_MII_RX_D1/ADC12_IN15/FT, 26 PB0 / TIM3_CH3/TIM8_CH2N/OTG_HS_ULPI_D1/ETH_MII_RXD2/TIM1_CH2N/ADC12_IN8/FT, 27 PB1 / TIM3_CH4/TIM8_CH3N/OTG_HS_ULPI_D2/ETH_MII_RXD3/TIM1_CH3N/ADC12_IN9/FT, 28 PB2 / BOOT1/FT, 29 PB10 / SPI2_SCK/I2S2_CK/I2C2_SCL/USART3_TX/OTG_HS_ULPI_D3/ETH_MII_RX_ER/TIM2_CH3/FT, 30 PB11 / I2C2_SDA/USART3_RX/OTG_HS_ULPI_D4/ETH_RMII_TX_EN/ETH_MII_TX_EN/TIM2_CH4/FT, 31 VCAP_1, 32 VDD, 33 PB12 / SPI2_NSS/I2S2_WS/I2C2_SMBA/USART3_CK/TIM1_BKIN/CAN2_RX /OTG_HS_ULPI_D5/ETH_RMII_TXD0/ETH_MII_TXD0/OTG_HS_ID/FT, 34 PB13 / SPI2_SCK/I2S2_CK/USART3_CTS/TIM1_CH1N/CAN2_TX/OTG_HS_ULPI_D6/ETH_RMII_TXD1/ETH_MII_TXD1/OTG_HS_VBUS/FT, 35 PB14 / SPI2_MISO/TIM1_CH2N/TIM12_CH1/OTG_HS_DM/USART3_RTS/TIM8_CH2N/I2S2ext_SD/FT, 36 PB15 / SPI2_MOSI/I2S2_SD/TIM1_CH3N/TIM8_CH3N/TIM12_CH2/OTG_HS_DP/RTC_REFIN/FT, 37 PC6 / I2S2_MCK/TIM8_CH1/SDIO_D6/USART6_TX/DCMI_D0/TIM3_CH1/FT, 38 PC7 / I2S3_MCK/TIM8_CH2/SDIO_D7/USART6_RX/DCMI_D1/TIM3_CH2/FT, 39 PC8 / TIM8_CH3/SDIO_D0/TIM3_CH3/USART6_CK/DCMI_D2/FT, 40 PC9 / I2S_CKIN/MCO2/TIM8_CH4/SDIO_D1/I2C3_SDA/DCMI_D3/TIM3_CH4/FT, 41 PA8 / MCO1/USART1_CK/TIM1_CH1/I2C3_SCL/OTG_FS_SOF/FT, 42 PA9 / USART1_TX/TIM1_CH2/I2C3_SMBA/DCMI_D0/OTG_FS_VBUS/FT, 43 PA10 / USART1_RX/TIM1_CH3/OTG_FS_ID/DCMI_D1/FT, 44 PA11 / USART1_CTS/CAN1_RX/TIM1_CH4/OTG_FS_DM/FT, 45 PA12 / USART1_RTS/CAN1_TX/TIM1_ETR/OTG_FS_DP/FT, 46 PA13 / JTMS-SWDIO/FT, 47 VCAP_2, 48 VDD, 49 PA14 / JTCK-SWCLK/FT, 50 A15 / JTDI/SPI3_NSS/I2S3_WS/TIM2_CH1_ETR/ SPI1_NSS/FT, 51 PC10 / SPI3_SCK/I2S3_CK/UART4_TX/SDIO_D2/DCMI_D8/USART3_TX/FT, 52 PC11 / UART4_RX/SPI3_MISO/SDIO_D3/DCMI_D4/USART3_RX/I2S3ext_SD/FT, 53 PC12 / UART5_TX/SDIO_CK/DCMI_D9/SPI3_MOSI/I2S3_SD/USART3_CK/FT, 54 PD2 / TIM3_ETR/UART5_RX/SDIO_CMD/DCMI_D11/FT, 55 PB3 / JTDO/TRACESWO/SPI3_SCK/I2S3_CK/TIM2_CH2/SPI1_SCK/FT, 56 PB4 / NJTRST/SPI3_MISO/TIM3_CH1/SPI1_MISO/I2S3ext_SD/FT, 57 PB5 / I2C1_SMBA/CAN2_RX/OTG_HS_ULPI_D7/ETH_PPS_OUT/TIM3_CH2/SPI1_MOSI/SPI3_MOSI/DCMI_D10/I2S3_SD/FT, 58 PB6 / I2C1_SCL/TIM4_CH1/CAN2_TX/DCMI_D5/USART1_TX/FT, 59 PB7 / I2C1_SDA/FSMC_NL/DCMI_VSYNC/USART1_RX/TIM4_CH2/FT, 60 BOOT0, 61 PB8 / TIM4_CH3/SDIO_D4/TIM10_CH1/DCMI_D6/ETH_MII_TXD3/I2C1_SCL/CAN1_RX/FT, 62 PB9 / SPI2_NSS/I2S2_WS/TIM4_CH4/TIM11_CH1/SDIO_D5/DCMI_D7/I2C1_SDA/CAN1_TX/FT, 63 VSS, 64 VDD
text: MPU

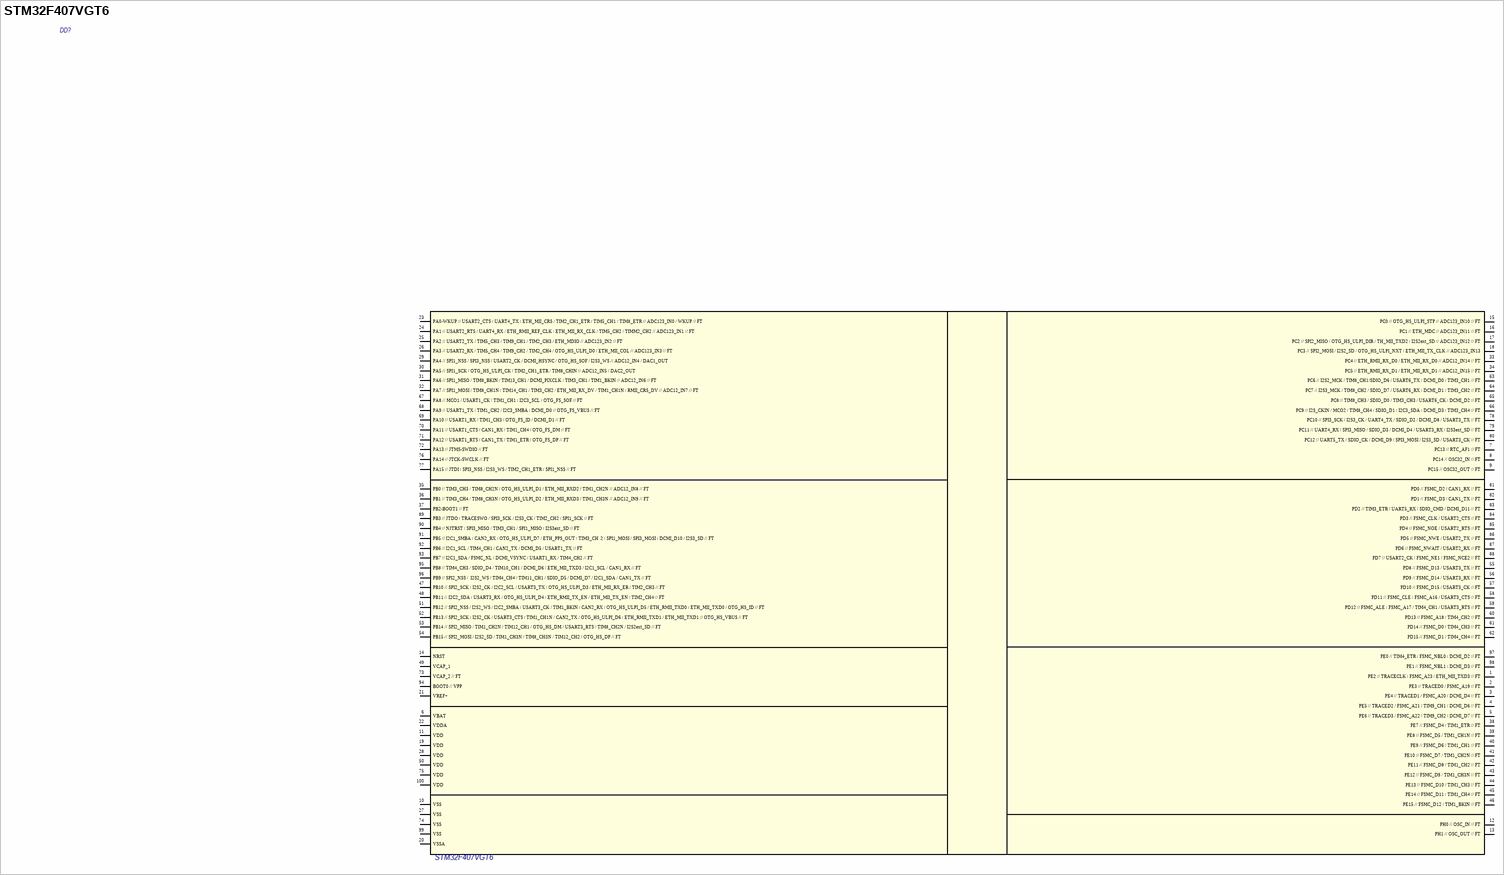
[diagram p7: symbol STM32F407VGT6]

## STM32F407VGT6
designator DD?
Микроконтроллер STM32F407VGT6
pins: 1 PE2 // TRACECLK / FSMC_A23 / ETH_MII_TXD3 // FT, 2 PE3 // TRACED0 / FSMC_A19 // FT, 3 PE4 // TRACED1 / FSMC_A20 / DCMI_D4 // FT, 4 PE5 // TRACED2 / FSMC_A21 / TIM9_CH1 / DCMI_D6 // FT, 5 PE6 // TRACED3 / FSMC_A22 / TIM9_CH2 / DCMI_D7 // FT, 6 VBAT, 7 PC13 // RTC_AF1 // FT, 8 PC14 // OSC32_IN // FT, 9 PC15 // OSC32_OUT // FT, 10 VSS, 11 VDD, 12 PH0 // OSC_IN // FT, 13 PH1 // OSC_OUT // FT, 14 NRST, 15 PC0 // OTG_HS_ULPI_STP // ADC123_IN10 // FT, 16 PC1 // ETH_MDC // ADC123_IN11 // FT, 17 PC2 // SPI2_MISO / OTG_HS_ULPI_DIR / TH_MII_TXD2 / I2S2ext_SD // ADC123_IN12 // FT, 18 PC3 // SPI2_MOSI / I2S2_SD / OTG_HS_ULPI_NXT / ETH_MII_TX_CLK // ADC123_IN13, 19 VDD, 20 VSSA, 21 VREF+, 22 VDDA, 23 PA0-WKUP // USART2_CTS / UART4_TX / ETH_MII_CRS / TIM2_CH1_ETR / TIM5_CH1 / TIM8_ETR // ADC123_IN0 / WKUP // FT , 24 PA1 // USART2_RTS / UART4_RX / ETH_RMII_REF_CLK / ETH_MII_RX_CLK / TIM5_CH2 / TIMM2_CH2 // ADC123_IN1 // FT, 25 PA2 // USART2_TX / TIM5_CH3 / TIM9_CH1 / TIM2_CH3 / ETH_MDIO // ADC123_IN2 // FT, 26 PA3 // USART2_RX / TIM5_CH4 / TIM9_CH2 / TIM2_CH4 / OTG_HS_ULPI_D0 / ETH_MII_COL // ADC123_IN3 // FT, 27 VSS, 28 VDD, 29 PA4 // SPI1_NSS / SPI3_NSS / USART2_CK / DCMI_HSYNC / OTG_HS_SOF / I2S3_WS // ADC12_IN4 / DAC1_OUT , 30 PA5 // SPI1_SCK / OTG_HS_ULPI_CK / TIM2_CH1_ETR / TIM8_CHIN // ADC12_IN5 / DAC2_OUT, 31 PA6 // SPI1_MISO / TIM8_BKIN / TIM13_CH1 / DCMI_PIXCLK / TIM3_CH1 / TIM1_BKIN // ADC12_IN6 // FT, 32 PA7 // SPI1_MOSI / TIM8_CH1N / TIM14_CH1 / TIM3_CH2 / ETH_MII_RX_DV / TIM1_CH1N / RMII_CRS_DV // ADC12_IN7 // FT, 33 PC4 // ETH_RMII_RX_D0 / ETH_MII_RX_D0 // ADC12_IN14 // FT, 34 PC5 // ETH_RMII_RX_D1 / ETH_MII_RX_D1 // ADC12_IN15 // FT, 35 PB0 // TIM3_CH3 / TIM8_CH2N / OTG_HS_ULPI_D1 / ETH_MII_RXD2 / TIM1_CH2N // ADC12_IN8 // FT, 36 PB1 // TIM3_CH4 / TIM8_CH3N / OTG_HS_ULPI_D2 / ETH_MII_RXD3 / TIM1_CH3N // ADC12_IN9 // FT, 37 PB2-BOOT1 // FT, 38 PE7 // FSMC_D4 / TIM1_ETR // FT, 39 PE8 // FSMC_D5 / TIM1_CH1N // FT, 40 PE9 // FSMC_D6 / TIM1_CH1 // FT, 41 PE10 // FSMC_D7 / TIM1_CH2N // FT, 42 PE11 // FSMC_D8 / TIM1_CH2 // FT, 43 PE12 // FSMC_D9 / TIM1_CH3N // FT, 44 PE13 // FSMC_D10 / TIM1_CH3 // FT, 45 PE14 // FSMC_D11 / TIM1_CH4 // FT, 46 PE15 // FSMC_D12 / TIM1_BKIN // FT, 47 PB10 // SPI2_SCK / I2S2_CK / I2C2_SCL / USART3_TX / OTG_HS_ULPI_D3 / ETH_MII_RX_ER / TIM2_CH3 // FT, 48 PB11 // I2C2_SDA / USART3_RX / OTG_HS_ULPI_D4 / ETH_RMII_TX_EN / ETH_MII_TX_EN / TIM2_CH4 // FT, 49 VCAP_1, 50 VDD, 51 PB12 // SPI2_NSS / I2S2_WS / I2C2_SMBA / USART3_CK / TIM1_BKIN / CAN2_RX / OTG_HS_ULPI_D5 / ETH_RMII_TXD0 / ETH_MII_TXD0 / OTG_HS_ID // FT, 52 PB13 // SPI2_SCK / I2S2_CK / USART3_CTS / TIM1_CH1N / CAN2_TX / OTG_HS_ULPI_D6 / ETH_RMII_TXD1 / ETH_MII_TXD1 // OTG_HS_VBUS // FT, 53 PB14 // SPI2_MISO / TIM1_CH2N / TIM12_CH1 / OTG_HS_DM / USART3_RTS / TIM8_CH2N / I2S2ext_SD // FT, 54 PB15 // SPI2_MOSI / I2S2_SD / TIM1_CH3N / TIM8_CH3N / TIM12_CH2 / OTG_HS_DP // FT, 55 PD8 // FSMC_D13 / USART3_TX // FT, 56 PD9 // FSMC_D14 / USART3_RX // FT, 57 PD10 // FSMC_D15 / USART3_CK // FT, 58 PD11 // FSMC_CLE / FSMC_A16 / USART3_CTS // FT, 59 PD12 // FSMC_ALE / FSMC_A17 / TIM4_CH1 / USART3_RTS // FT, 60 PD13 // FSMC_A18 / TIM4_CH2 // FT, 61 PD14 // FSMC_D0 / TIM4_CH3 // FT, 62 PD15 // FSMC_D1 / TIM4_CH4 // FT, 63 PC6 // I2S2_MCK / TIM8_CH1/SDIO_D6 / USART6_TX / DCMI_D0 / TIM3_CH1 // FT, 64 PC7 // I2S3_MCK / TIM8_CH2 / SDIO_D7 / USART6_RX / DCMI_D1 / TIM3_CH2 // FT, 65 PC8 // TIM8_CH3 / SDIO_D0 / TIM3_CH3 / USART6_CK / DCMI_D2 // FT, 66 PC9 // I2S_CKIN / MCO2 / TIM8_CH4 / SDIO_D1 / I2C3_SDA / DCMI_D3 / TIM3_CH4 // FT, 67 PA8 // MCO1 / USART1_CK / TIM1_CH1 / I2C3_SCL / OTG_FS_SOF // FT, 68 PA9 // USART1_TX / TIM1_CH2 / I2C3_SMBA / DCMI_D0 // OTG_FS_VBUS // FT , 69 PA10 // USART1_RX / TIM1_CH3 / OTG_FS_ID / DCMI_D1 // FT, 70 PA11 // USART1_CTS / CAN1_RX / TIM1_CH4 / OTG_FS_DM // FT, 71 PA12 // USART1_RTS / CAN1_TX / TIM1_ETR / OTG_FS_DP // FT, 72 PA13 // JTMS-SWDIO // FT, 73 VCAP_2 // FT, 74 VSS, 75 VDD, 76 PA14 // JTCK-SWCLK // FT, 77 PA15 // JTDI / SPI3_NSS / I2S3_WS / TIM2_CH1_ETR / SPI1_NSS // FT, 78 PC10 // SPI3_SCK / I2S3_CK / UART4_TX / SDIO_D2 / DCMI_D8 / USART3_TX // FT, 79 PC11 // UART4_RX / SPI3_MISO / SDIO_D3 / DCMI_D4 / USART3_RX / I2S3ext_SD // FT, 80 PC12 // UART5_TX / SDIO_CK / DCMI_D9 / SPI3_MOSI / I2S3_SD / USART3_CK // FT, 81 PD0 // FSMC_D2 / CAN1_RX // FT, 82 PD1 // FSMC_D3 / CAN1_TX // FT, 83 PD2 // TIM3_ETR / UART5_RX / SDIO_CMD / DCMI_D11 // FT, 84 PD3 // FSMC_CLK / USART2_CTS // FT, 85 PD4 // FSMC_NOE / USART2_RTS // FT, 86 PD5 // FSMC_NWE / USART2_TX // FT, 87 PD6 // FSMC_NWAIT / USART2_RX // FT, 88 PD7 // USART2_CK / FSMC_NE1 / FSMC_NCE2 // FT, 89 PB3 // JTDO / TRACESWO / SPI3_SCK / I2S3_CK / TIM2_CH2 / SPI1_SCK // FT, 90 PB4 // NJTRST / SPI3_MISO / TIM3_CH1 / SPI1_MISO / I2S3ext_SD // FT, 91 PB5 // I2C1_SMBA / CAN2_RX / OTG_HS_ULPI_D7 / ETH_PPS_OUT / TIM3_CH  2 / SPI1_MOSI / SPI3_MOSI / DCMI_D10 / I2S3_SD // FT, 92 PB6 // I2C1_SCL / TIM4_CH1 / CAN2_TX / DCMI_D5 / USART1_TX // FT, 93 PB7 // I2C1_SDA / FSMC_NL / DCMI_VSYNC / USART1_RX / TIM4_CH2 // FT, 94 BOOT0 // VPP, 95 PB8 // TIM4_CH3 / SDIO_D4 / TIM10_CH1 / DCMI_D6 / ETH_MII_TXD3 / I2C1_SCL / CAN1_RX // FT, 96 PB9 // SPI2_NSS /  I2S2_WS / TIM4_CH4 / TIM11_CH1 / SDIO_D5 / DCMI_D7 / I2C1_SDA / CAN1_TX // FT, 97 PE0 // TIM4_ETR / FSMC_NBL0 / DCMI_D2 // FT, 98 PE1 // FSMC_NBL1 / DCMI_D3 // FT, 99 VSS, 100 VDD
1 alternate drawing of the same symbol